# Altium footprint library PcbLib1.PcbLib: 4 footprints
Each footprint in its own frame and in the unit in brackets; x right, y up, seen from the top. Pads: shape width x height; smd on the part's side, far side on the other; paste and mask are expansions set on the pad; w line width, h text height; cw(c..) or ccw(c..) is an arc to the next point about the centre after c.
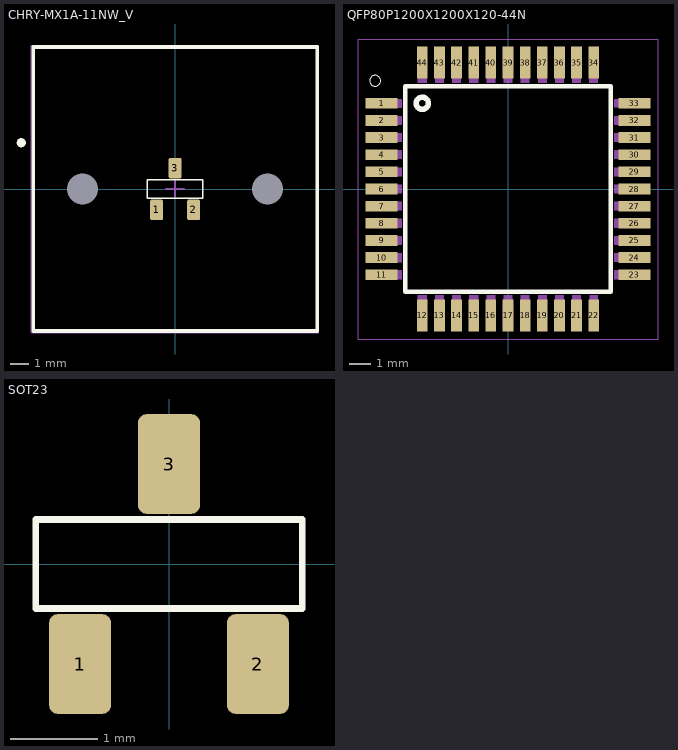
[diagram p0: the footprints below, top view; thin cyan lines are the x and y axes]

## CHRY-MX1A-11NW_V [mil] "THD, 2-Leads, Body 15.6x15.6mm"
height 598.43
pads (5):
  rrect30% 28x45 smd: 1(-40,-45) 2(40,-45) 3(0,45)
  round 0 hole 67 unplated paste+0: MH2(-200,0) MH3(200,0)
Top Overlay:
  circle w9.84: c-332.68,100 r4.92
  lines w3: -60,-20 -60,20 60,20 60,-20 -60,-20
  lines w7.87: -307.09,-307.09 -307.09,307.09 307.09,307.09 307.09,-307.09 -307.09,-307.09
Mechanical 13:
  lines w3.94: -307.09,-307.09 307.09,-307.09 307.09,307.09 -307.09,307.09 -307.09,-307.09
Mechanical 15:
  lines w1.97: -311.02,-311.02 311.02,-311.02 311.02,311.02 -311.02,311.02 -311.02,-311.02
  lines w3.94: -19.68,0 19.68,0 ; 0,-19.68 0,19.68
3D body: height 598.43, standoff 0, extent -307.09,-307.09 307.09,307.09

## PCBComponent_1 [mm]

## QFP80P1200X1200X120-44N [mm]
pads (44):
  rect 1.5x0.5 smd: 1(-5.9,4) 2(-5.9,3.2) 3(-5.9,2.4) 4(-5.9,1.6) 5(-5.9,0.8) 6(-5.9,0) 7(-5.9,-0.8) 8(-5.9,-1.6) 9(-5.9,-2.4) 10(-5.9,-3.2) 11(-5.9,-4) 23(5.9,-4) 24(5.9,-3.2) 25(5.9,-2.4) 26(5.9,-1.6) 27(5.9,-0.8) 28(5.9,0) 29(5.9,0.8) 30(5.9,1.6) 31(5.9,2.4) 32(5.9,3.2) 33(5.9,4)
  rect 0.5x1.5 smd: 12(-4,-5.9) 13(-3.2,-5.9) 14(-2.4,-5.9) 15(-1.6,-5.9) 16(-0.8,-5.9) 17(0,-5.9) 18(0.8,-5.9) 19(1.6,-5.9) 20(2.4,-5.9) 21(3.2,-5.9) 22(4,-5.9) 34(4,5.9) 35(3.2,5.9) 36(2.4,5.9) 37(1.6,5.9) 38(0.8,5.9) 39(0,5.9) 40(-0.8,5.9) 41(-1.6,5.9) 42(-2.4,5.9) 43(-3.2,5.9) 44(-4,5.9)
Top Overlay:
  circle w0.254: c-4,4 r0.283
  circle w0: c-6.2,5.05 r0.254
  lines w0.203: -4.8,-4.8 4.8,-4.8 4.8,4.8 -4.8,4.8 -4.8,-4.8
Mechanical 13:
  drawing of 44 lines, arcs and shapes, not listed
Mechanical 15:
  lines w0.05: -7,-7 7,-7 7,7 -7,7 -7,-7
3D body "step_temp.STEP": height 0.53, standoff -0.67, extent -6,-6 6,6

## SOT23 [mil]
pads (3):
  rrect30% 28x45 smd: 1(-40,-45) 2(40,-45) 3(0,45)
Top Overlay:
  lines w3: -60,-20 -60,20 60,20 60,-20 -60,-20